# Altium footprint library Switch Footprints.PcbLib: 5 footprints
Each footprint in its own frame and in the unit in brackets; x right, y up, seen from the top. Pads: shape width x height; smd on the part's side, far side on the other; paste and mask are expansions set on the pad; w line width, h text height; cw(c..) or ccw(c..) is an arc to the next point about the centre after c.
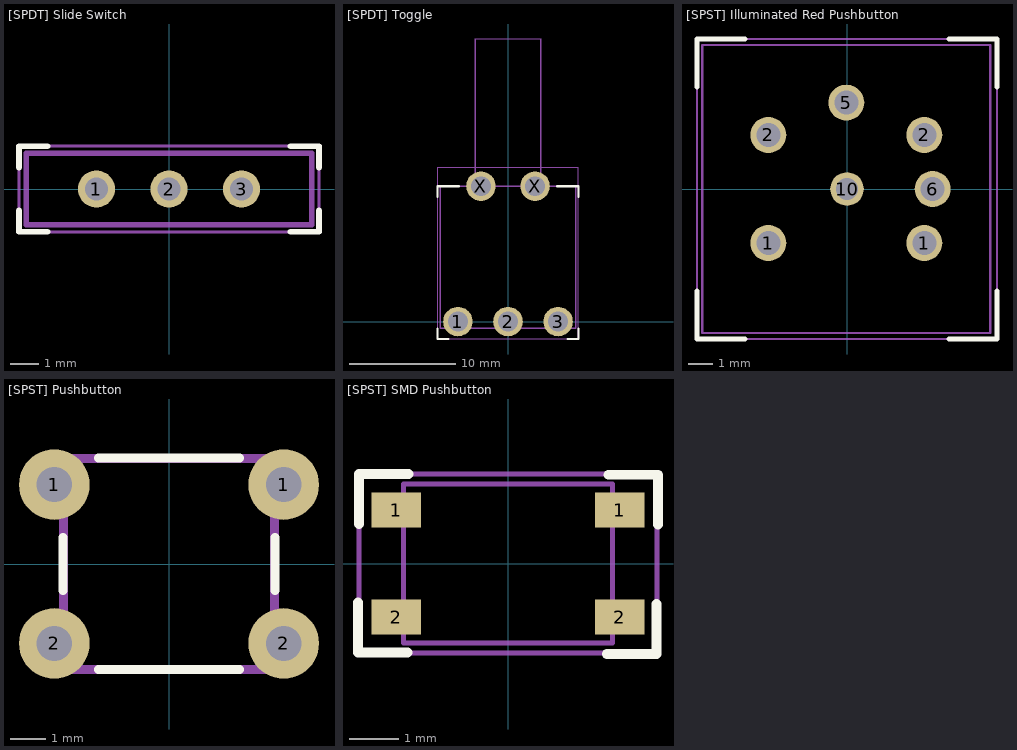
[diagram p0: the footprints below, top view; thin cyan lines are the x and y axes]

## [SPDT] Slide Switch [mm]
pads (3):
  round 1.3 hole 0.8: 1(-2.54,0) 2(0,0) 3(2.54,0)
Top Overlay:
  lines w0.2: -5.25,-0.75 -5.25,-1.5 -4.25,-1.5 ; -5.25,0.75 -5.25,1.5 -4.25,1.5 ; 4.25,-1.5 5.25,-1.5 5.25,-0.75 ; 4.25,1.5 5.25,1.5 5.25,0.75
Physical Outline:
  lines w0.2: -5,-1.25 5,-1.25 5,1.25 -5,1.25 -5,-1.25
Part Border:
  lines w0.1: -5.25,-1.5 -5.25,1.5 5.25,1.5 5.25,-1.5 -5.25,-1.5
3D body "09.03290.01.stp": height 7.8, standoff -5.05, extent -5.03,-1.25 4.97,1.25

## [SPDT] Toggle [mm] "ANT11TFHQE"
pads (5):
  round 2.775 hole 1.85: 1(-4.7,0) 2(0,0) 3(4.7,0) X(-2.54,12.7) X(2.54,12.7)
Top Overlay:
  lines w0.2: -6.6,-0.637 -6.6,-1.637 -5.6,-1.637 ; -6.6,11.7 -6.6,12.7 -4.6,12.7 ; 4.6,12.7 6.6,12.7 6.6,11.7 ; 5.6,-1.637 6.6,-1.637 6.6,-0.637
Physical Outline:
  lines w0.1: -3.085,26.515 3.085,26.515
  lines w0.127: -3.085,26.515 -3.085,12.7 ; 3.085,26.515 3.085,12.7 ; -3.085,12.7 3.085,12.7 ; -3.085,12.7 -6.35,12.7 -6.35,-0.635 6.35,-0.635 6.35,12.7 3.085,12.7
Part Border:
  lines w0.1: -6.6,-1.637 -6.6,14.5 6.6,14.5 6.6,-1.637 -6.6,-1.637
3D body "step_temp.STEP": height 6.86, standoff -3.17, extent -6.35,-0.635 6.35,26.515

## [SPST] Illuminated Red Pushbutton [mm]
pads (7):
  round 1.5 hole 1: 1(-3.28,-2.25) 1(3.22,-2.25) 2(-3.28,2.25) 2(3.22,2.25) 5(-0.03,3.6) 6(3.57,0)
  round 1.4 hole 0.9: 10(0,0)
Top Overlay:
  lines w0.2: -6.25,-4.25 -6.25,-6.25 -4.25,-6.25 ; -6.25,4.25 -6.25,6.25 -4.25,6.25 ; 4.25,-6.25 6.25,-6.25 6.25,-4.25 ; 4.25,6.25 6.25,6.25 6.25,4.25
Physical Outline:
  lines w0.1: -6.03,-6 -6.03,6 5.97,6 5.97,-6 -6.03,-6
Part Border:
  lines w0.1: -6.25,-6.25 -6.25,6.25 6.25,6.25 6.25,-6.25 -6.25,-6.25
3D body "B3W-9010-R1N.stp": height 10.87, standoff -5.63, extent -6,-6 6,6

## [SPST] Pushbutton [mm] "(Regular pushbutton)"
pads (4):
  round 2 hole 1: 1(-3.25,2.25) 1(3.25,2.25) 2(-3.25,-2.25) 2(3.25,-2.25)
Top Overlay:
  lines w0.254: -3,-0.75 -3,0.75 ; -2,-2.995 2,-2.995 ; -2,3 2,3 ; 3,-0.75 3,0.75
Physical Outline:
  lines w0.254: -2.995,-2.995 2.995,-2.995 2.995,2.995 -2.995,2.995 -2.995,-2.995
3D body "Pushbutton.STEP": height 4.95, standoff -3.38, extent -3.846,-3.004 3.846,3.004

## [SPST] SMD Pushbutton [mm] "PTS815SJM250SMTRLFS"
pads (4):
  rect 1x0.7 smd: 1(-2.25,1.075) 1(2.25,1.075) 2(-2.25,-1.075) 2(2.25,-1.075)
Top Overlay:
  lines w0.2: -3.017,-0.786 -3.017,-1.786 -2.017,-1.786 ; -3,0.8 -3,1.8 -2,1.8 ; 1.986,-1.817 2.986,-1.817 2.986,-0.817 ; 2.017,1.786 3.017,1.786 3.017,0.786
Physical Outline:
  lines w0.1: -2.1,-1.6 -2.1,1.6 2.1,1.6 2.1,-1.6 -2.1,-1.6
Part Border:
  lines w0.1: -3,-1.8 -3,1.8 3,1.8 3,-1.8 -3,-1.8
3D body "PTS815SJM250SMTR_LFS.stp": height 2.5, standoff 0, extent -2.25,-1.6 2.25,1.6